# Altium footprint library special.PCBLIB: 1 footprints
Each footprint in its own frame and in the unit in brackets; x right, y up, seen from the top. Pads: shape width x height; smd on the part's side, far side on the other; paste and mask are expansions set on the pad; w line width, h text height; cw(c..) or ccw(c..) is an arc to the next point about the centre after c.
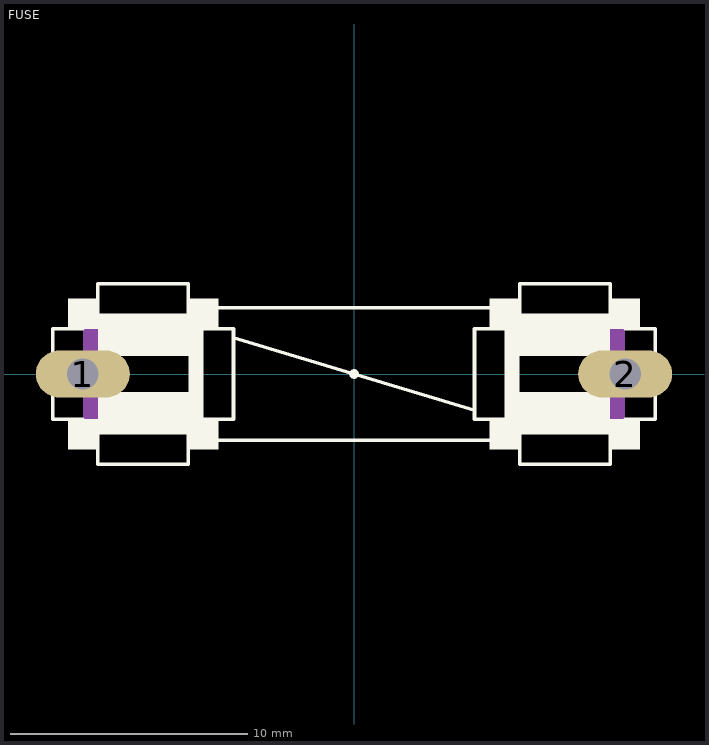
[diagram p0: the footprint, top view; thin cyan lines are the x and y axes]

## FUSE [mil]
pads (2):
  oval 156x78 hole 52: 1(-450,0) 2(450,0)
Top Overlay:
  circle w6: c0,0 r5
  rectangle: -475,75 -425,125
  rectangle: -475,-125 -425,-75
  rectangle: -275,75 -225,125
  rectangle: -275,-125 -225,-75
  rectangle: -275,-100 -250,100
  rectangle: -425,30 -275,100
  rectangle: -425,-100 -275,-30
  rectangle: 225,75 275,125
  rectangle: 225,-125 275,-75
  rectangle: 250,-100 275,100
  rectangle: 425,75 475,125
  rectangle: 425,-125 475,-75
  rectangle: 275,30 425,100
  rectangle: 275,-100 425,-30
  lines w6: -450,-75 -500,-75 -500,75 -450,75 ; -425,-100 -425,-150 -275,-150 -275,-100 ; -425,100 -425,150 -275,150 -275,100 ; -250,-75 -200,-75 -200,60 ; -250,75 -200,75 -200,60 ; -225,-110 225,-110 ; -225,110 225,110 ; 250,-75 200,-75 200,-60 ; 250,75 200,75 200,-60 ; 275,-100 275,-150 425,-150 425,-100 ; 275,100 275,150 425,150 425,100 ; 450,-75 500,-75 500,75 450,75 ; -200,60 200,-60
Mechanical 16:
  rectangle: -450,-100 -425,100
  rectangle: 425,-100 450,100